# EAGLE library part EXB-Q16 (library sf-keyglove)
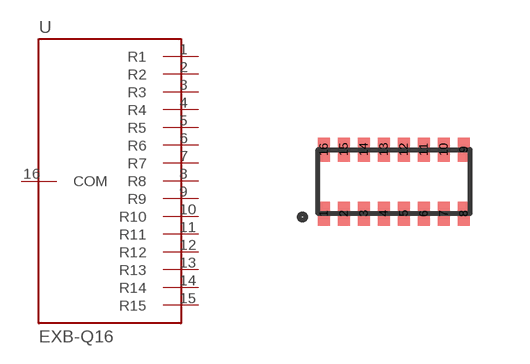
[diagram p7: symbol with the pads of SMD1506; footprint SMD1506]

Designator prefix -

## EXB-Q16  [SMD1506]
1  R1
2  R2
3  R3
4  R4
5  R5
6  R6
7  R7
8  R8
9  R9
10  R10
11  R11
12  R12
13  R13
14  R14
15  R15
16  COM

## Footprint SMD1506 (pad centres in mm)
smd 0.3 x 0.6: 1 -1.75,-0.8; 2 -1.25,-0.8; 3 -0.75,-0.8; 4 -0.25,-0.8; 5 0.25,-0.8; 6 0.75,-0.8; 7 1.25,-0.8; 8 1.75,-0.8; 9 1.75,0.8; 10 1.25,0.8; 11 0.75,0.8; 12 0.25,0.8; 13 -0.25,0.8; 14 -0.75,0.8; 15 -1.25,0.8; 16 -1.75,0.8